# Altium schematic symbol library STM32.SchLib: 2 symbols
Pins are listed as number, name and electrical type; pins without a type are passive.

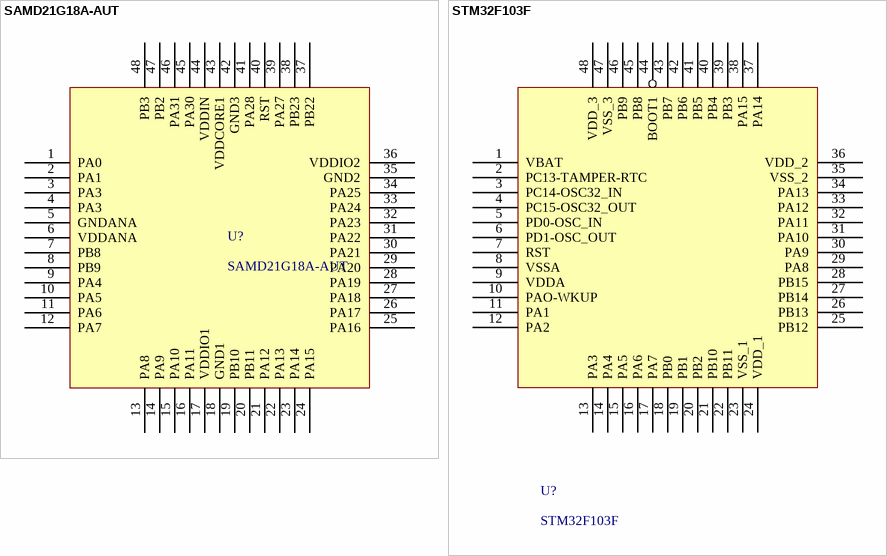
[diagram p0: symbols SAMD21G18A-AUT to STM32F103F]

## SAMD21G18A-AUT
designator U?
footprint LQFP48 (LQFP, 48-Leads, Body 9,1x9,1mm (max), Pitch 0,50mm,)
footprint QFN48 (QFN, 48-Leads, Body 7,00x7,00mm, Pitch 0,50mm, Thermal Pad 5,75x5,75mm, IPC Medium Density)
pins: 1 PA0, 2 PA1, 3 PA3, 4 PA3, 5 GNDANA, 6 VDDANA, 7 PB8, 8 PB9, 9 PA4, 10 PA5, 11 PA6, 12 PA7, 13 PA8, 14 PA9, 15 PA10, 16 PA11, 17 VDDIO1, 18 GND1, 19 PB10, 20 PB11, 21 PA12, 22 PA13, 23 PA14, 24 PA15, 25 PA16, 26 PA17, 27 PA18, 28 PA19, 29 PA20, 30 PA21, 31 PA22, 32 PA23, 33 PA24, 34 PA25, 35 GND2, 36 VDDIO2, 37 PB22, 38 PB23, 39 PA27, 40 RST, 41 PA28, 42 GND3, 43 VDDCORE1, 44 VDDIN, 45 PA30, 46 PA31, 47 PB2, 48 PB3

## STM32F103F
designator U?
footprint LQFP-48 (LQFP, 48-Leads, Body 9,1x9,1mm (max), Pitch 0,50mm,)
pins: 1 VBAT, 2 PC13-TAMPER-RTC, 3 PC14-OSC32_IN, 4 PC15-OSC32_OUT, 5 PD0-OSC_IN, 6 PD1-OSC_OUT, 7 RST, 8 VSSA, 9 VDDA, 10 PAO-WKUP, 11 PA1, 12 PA2, 13 PA3, 14 PA4, 15 PA5, 16 PA6, 17 PA7, 18 PB0, 19 PB1, 20 PB2, 21 PB10, 22 PB11, 23 VSS_1, 24 VDD_1, 25 PB12, 26 PB13, 27 PB14, 28 PB15, 29 PA8, 30 PA9, 31 PA10, 32 PA11, 33 PA12, 34 PA13, 35 VSS_2, 36 VDD_2, 37 PA14, 38 PA15, 39 PB3, 40 PB4, 41 PB5, 42 PB6, 43 PB7, 44 BOOT1, 45 PB8, 46 PB9, 47 VSS_3, 48 VDD_3